# EAGLE library part TCS3414 (library pimoroni)
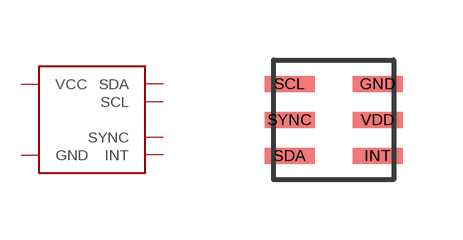
[diagram p45: symbol with the pads of TCS3414; footprint TCS3414]

Designator prefix -

## TCS3414FN  [TCS3414]
GND  GND
INT  INT
SCL  SCL
SDA  SDA
SYNC  SYNC
VDD  VCC

## Footprint TCS3414 (pad centres in mm)
smd 1.25 x 0.4: GND 1.1,0.9; INT 1.1,-0.9; SCL -1.1,0.9; SDA -1.1,-0.9; SYNC -1.1,0; VDD 1.1,0